# Altium integrated library MS860702BA01-50.IntLib: 1 symbol
Pins are listed as number, name and electrical type; pins without a type are passive.

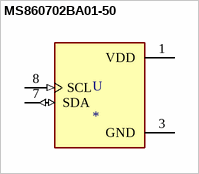
[diagram p0: symbol MS860702BA01-50]

## MS860702BA01-50
designator U
PHT SENSOR, 29PSI-10MBAR, QFN-8; MF: TE Connectivity; MP: MS860702BA01-50; Value: *; SnapEDA_Link: https://www.snapeda.com/parts/MS860702BA01-50/TE%20Connectivity%20ALCOSWITCH%20Switches/view-part/555057/?ref=snap; Availability: Unavailable; Package: QFN-8; Price: None
footprint TE_MS860702BA01-50
pins: 1 VDD (power), 3 GND (power), 7 SDA (io), 8 SCL (in)